# Altium schematic symbol library MICRO-USB-CONNECTOR.SchLib: 1 symbol
Pins are listed as number, name and electrical type; pins without a type are passive.

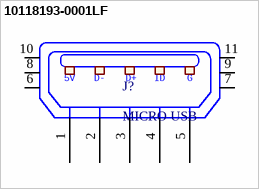
[diagram p0: symbol 10118193-0001LF]

## 10118193-0001LF
designator J?, comment MICRO USB
CONN USB MICRO B RECPT SMT R/A; Manufacturer: Amphenol ICC / FCI; Manufacturer Part Number: 10118193-0001LF; Supplier 1: Digi-Key; Stock 1: 0; Pricing 1: 1=0.44, 10=0.41, 25=0.3692, 50=0.3282, 100=0.3145, 250=0.2872, 500=0.2735 (USD); Supplier Part Number 1: 609-4616-1-ND
footprint MICRO-USB
pins: 1 P1, 2 P2, 3 P3, 4 P4, 5 P5, 6, 7, 8, 9, 10, 11
text: 5V; D-; D+; ID; G